# Altium integrated library TI_Logic_Specialty_Logic.IntLib: 2504 symbols (part 56 of 81)
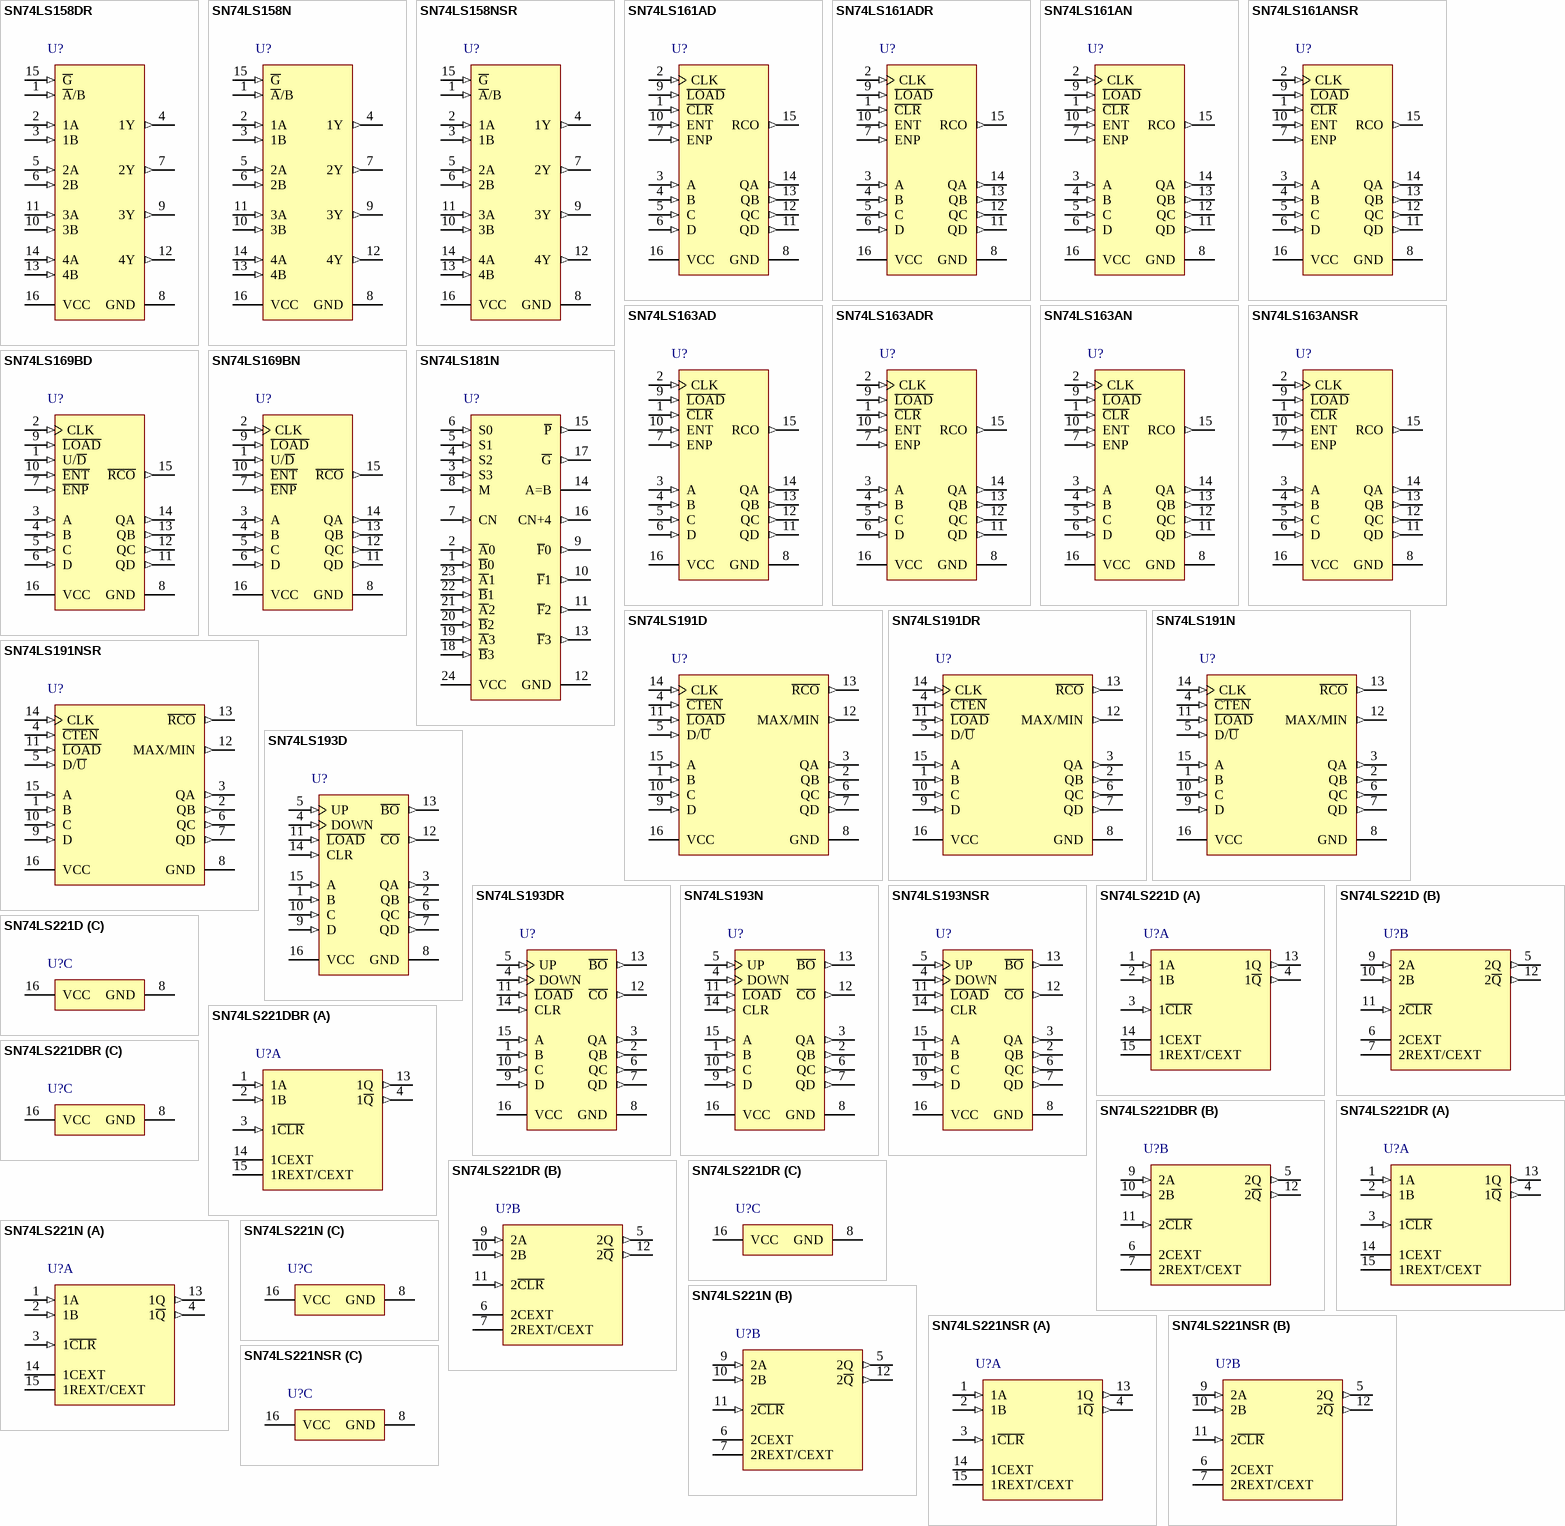
[diagram p159: symbols SN74LS158DR to SN74LS221NSR]

## SN74LS193N
designator U?
Synchronous 4-Bit Up/Down Binary Counters With Dual Clock and Clear, N0016A, TUBE; Generic Part Number: SN74LS193; Manufacturer: Texas Instruments; PartNumber: SN74LS193N; VCC(Min)(V): 4.75; VCC(Max)(V): 5.25; Output Type: CMOS; Inputs: 4; ICC @ Nom Voltage(Max)(mA): 34; Input Type: TTL; F @ Nom Voltage(Max)(Mhz): 35; Rating: Catalog; Technology Family: LS; Voltage(Nom)(V): 5; Schmitt Trigger: No; Output Drive (IOL/IOH)(Max)(mA): 8/-0.4; tpd @ Nom Voltage(Max)(ns): 47; DatasheetVersion: SDLS074; PackageReference: N0016A; Supplier 1: Mouser; Supplier Part Number 1: 595-SN74LS193N; Supplier 2: Digi-Key; Supplier Part Number 2: 296-1649-5-ND; Function: Counter; Bits(#): 4; Operating Temperature Range(C): 0 to 70; Type: Binary; Code_JEDEC: MS-001; ComponentLink1Description: Manufacturer URL; ComponentLink1URL: http://www.ti.com/; ComponentLink2Description: Datasheet; ComponentLink2URL: http://www.ti.com/lit/ds/symlink/sn74ls193.pdf; ComponentLink3Description: Package Specification; ComponentLink3URL: http://www.ti.com/lit/ml/mpdi002c/mpdi002c.pdf
footprint N0016A (DIP, 16-Leads, Body 19.7x6.6mm, Pitch 2.54mm)
pins: 1 B (in), 2 QB (out), 3 QA (out), 4 DOWN (in), 5 UP (in), 6 QC (out), 7 QD (out), 8 GND (power), 9 D (in), 10 C (in), 11 ~{LOAD} (in), 12 ~{CO} (out), 13 ~{BO} (out), 14 CLR (in), 15 A (in), 16 VCC (power)

## SN74LS193NSR
designator U?
Synchronous 4-Bit Up/Down Binary Counters With Dual Clock and Clear, NS0016A, LARGE T&R; Generic Part Number: SN74LS193; Manufacturer: Texas Instruments; PartNumber: SN74LS193NSR; VCC(Min)(V): 4.75; VCC(Max)(V): 5.25; Output Type: CMOS; Inputs: 4; ICC @ Nom Voltage(Max)(mA): 34; Input Type: TTL; F @ Nom Voltage(Max)(Mhz): 35; Rating: Catalog; Technology Family: LS; Voltage(Nom)(V): 5; Schmitt Trigger: No; Output Drive (IOL/IOH)(Max)(mA): 8/-0.4; tpd @ Nom Voltage(Max)(ns): 47; DatasheetVersion: SDLS074; PackageReference: NS0016A; Supplier 1: Mouser; Supplier Part Number 1: 595-SN74LS193NSR; Supplier 2: Digi-Key; Supplier Part Number 2: 296-30000-2-ND; Supplier 3: Digi-Key; Supplier Part Number 3: 296-30000-1-ND; Supplier 4: Digi-Key; Supplier Part Number 4: 296-30000-6-ND; Function: Counter; Bits(#): 4; Operating Temperature Range(C): 0 to 70; Type: Binary; ComponentLink1Description: Manufacturer URL; ComponentLink1URL: http://www.ti.com/; ComponentLink2Description: Datasheet; ComponentLink2URL: http://www.ti.com/lit/ds/symlink/sn74ls193.pdf; ComponentLink3Description: Package Specification; ComponentLink3URL: http://www.ti.com/lit/ml/msop002a/msop002a.pdf
footprint NS0016A_N (SOIC,16-Leads,Body 10.5x5.6mm,Pitch 1.27mm,IPC Medium Density)
footprint NS0016A_M (SOIC,16-Leads,Body 10.5x5.6mm,Pitch 1.27mm,IPC Low Density)
footprint NS0016A_L (SOIC,16-Leads,Body 10.5x5.6mm,Pitch 1.27mm,IPC High Density)
pins: 1 B (in), 2 QB (out), 3 QA (out), 4 DOWN (in), 5 UP (in), 6 QC (out), 7 QD (out), 8 GND (power), 9 D (in), 10 C (in), 11 ~{LOAD} (in), 12 ~{CO} (out), 13 ~{BO} (out), 14 CLR (in), 15 A (in), 16 VCC (power)

## SN74LS221D
designator U?
Dual monostable multivibrators with Schmitt-trigger inputs, D0016A, TUBE; Generic Part Number: SN74LS221; Manufacturer: Texas Instruments; PartNumber: SN74LS221D; VCC(Min)(V): 4.75; VCC(Max)(V): 5.25; Output Type: TTL; ICC @ Nom Voltage(Max)(mA): 27; Bits(#): 2; F @ Nom Voltage(Max)(Mhz): 35; Rating: Catalog; Technology Family: LS; Voltage(Nom)(V): 5; Schmitt Trigger: No; Output Drive (IOL/IOH)(Max)(mA): 8/-0.4; tpd @ Nom Voltage(Max)(ns): 80; DatasheetVersion: SDLS213B; PackageReference: D0016A; Supplier 1: Mouser; Supplier Part Number 1: 595-SN74LS221D; Supplier 2: Digi-Key; Supplier Part Number 2: 296-3673-5-ND; Input Type: TTL; Operating Temperature Range(C): 0 to 70; Code_JEDEC: MS-012 variation AC; ComponentLink1Description: Manufacturer URL; ComponentLink1URL: http://www.ti.com/; ComponentLink2Description: Datasheet; ComponentLink2URL: http://www.ti.com/lit/ds/symlink/sn74ls221.pdf; ComponentLink3Description: Package Specification; ComponentLink3URL: http://www.ti.com/lit/ml/mpds178g/mpds178g.pdf
footprint D0016A_N (SOIC, 16-Leads, Body 10x4mm, Pitch 1.27mm, IPC Medium Density)
footprint D0016A_M (SOIC, 16-Leads, Body 10x4mm, Pitch 1.27mm, IPC Low Density)
footprint D0016A_L (SOIC, 16-Leads, Body 10x4mm, Pitch 1.27mm, IPC High Density)
part A pins: 1 1A (in), 2 1B (in), 3 1~{CLR} (in), 4 1~{Q} (out), 13 1Q (out), 14 1CEXT, 15 1REXT/CEXT
part B pins: 5 2Q (out), 6 2CEXT, 7 2REXT/CEXT, 9 2A (in), 10 2B (in), 11 2~{CLR} (in), 12 2~{Q} (out)
part C pins: 8 GND (power), 16 VCC (power)

## SN74LS221DBR
designator U?
Dual monostable multivibrators with Schmitt-trigger inputs, DB0016A, LARGE T&R; Generic Part Number: SN74LS221; Manufacturer: Texas Instruments; PartNumber: SN74LS221DBR; VCC(Min)(V): 4.75; VCC(Max)(V): 5.25; Output Type: TTL; ICC @ Nom Voltage(Max)(mA): 27; Bits(#): 2; F @ Nom Voltage(Max)(Mhz): 35; Rating: Catalog; Technology Family: LS; Voltage(Nom)(V): 5; Schmitt Trigger: No; Output Drive (IOL/IOH)(Max)(mA): 8/-0.4; tpd @ Nom Voltage(Max)(ns): 80; DatasheetVersion: SDLS213B; PackageReference: DB0016A; Supplier 1: Mouser; Supplier Part Number 1: 595-SN74LS221DBR; Supplier 2: Digi-Key; Supplier Part Number 2: 296-29135-2-ND; Supplier 3: Digi-Key; Supplier Part Number 3: 296-29135-1-ND; Supplier 4: Digi-Key; Supplier Part Number 4: 296-29135-6-ND; Input Type: TTL; Operating Temperature Range(C): 0 to 70; Code_JEDEC: MO-150; ComponentLink1Description: Manufacturer URL; ComponentLink1URL: http://www.ti.com/; ComponentLink2Description: Datasheet; ComponentLink2URL: http://www.ti.com/lit/ds/symlink/sn74ls221.pdf; ComponentLink3Description: Package Specification; ComponentLink3URL: http://www.ti.com/lit/ml/mpds507/mpds507.pdf
footprint DB0016A_N (SOP, 16-Leads, Body 5.6x6.5mm, Pitch 0.65mm, IPC Medium Density)
footprint DB0016A_M (SOP, 16-Leads, Body 5.6x6.5mm, Pitch 0.65mm, IPC Low Density)
footprint DB0016A_L (SOP, 16-Leads, Body 5.6x6.5mm, Pitch 0.65mm, IPC High Density)
part A pins: 1 1A (in), 2 1B (in), 3 1~{CLR} (in), 4 1~{Q} (out), 13 1Q (out), 14 1CEXT, 15 1REXT/CEXT
part B pins: 5 2Q (out), 6 2CEXT, 7 2REXT/CEXT, 9 2A (in), 10 2B (in), 11 2~{CLR} (in), 12 2~{Q} (out)
part C pins: 8 GND (power), 16 VCC (power)

## SN74LS221DR
designator U?
Dual monostable multivibrators with Schmitt-trigger inputs, D0016A, LARGE T&R; Generic Part Number: SN74LS221; Manufacturer: Texas Instruments; PartNumber: SN74LS221DR; VCC(Min)(V): 4.75; VCC(Max)(V): 5.25; Output Type: TTL; ICC @ Nom Voltage(Max)(mA): 27; Bits(#): 2; F @ Nom Voltage(Max)(Mhz): 35; Rating: Catalog; Technology Family: LS; Voltage(Nom)(V): 5; Schmitt Trigger: No; Output Drive (IOL/IOH)(Max)(mA): 8/-0.4; tpd @ Nom Voltage(Max)(ns): 80; DatasheetVersion: SDLS213B; PackageReference: D0016A; Supplier 1: Mouser; Supplier Part Number 1: 595-SN74LS221DR; Supplier 2: Digi-Key; Supplier Part Number 2: 296-37421-2-ND; Supplier 3: Digi-Key; Supplier Part Number 3: 296-37421-1-ND; Supplier 4: Digi-Key; Supplier Part Number 4: 296-37421-6-ND; Input Type: TTL; Operating Temperature Range(C): 0 to 70; Code_JEDEC: MS-012 variation AC; ComponentLink1Description: Manufacturer URL; ComponentLink1URL: http://www.ti.com/; ComponentLink2Description: Datasheet; ComponentLink2URL: http://www.ti.com/lit/ds/symlink/sn74ls221.pdf; ComponentLink3Description: Package Specification; ComponentLink3URL: http://www.ti.com/lit/ml/mpds178g/mpds178g.pdf
footprint D0016A_N (SOIC, 16-Leads, Body 10x4mm, Pitch 1.27mm, IPC Medium Density)
footprint D0016A_M (SOIC, 16-Leads, Body 10x4mm, Pitch 1.27mm, IPC Low Density)
footprint D0016A_L (SOIC, 16-Leads, Body 10x4mm, Pitch 1.27mm, IPC High Density)
part A pins: 1 1A (in), 2 1B (in), 3 1~{CLR} (in), 4 1~{Q} (out), 13 1Q (out), 14 1CEXT, 15 1REXT/CEXT
part B pins: 5 2Q (out), 6 2CEXT, 7 2REXT/CEXT, 9 2A (in), 10 2B (in), 11 2~{CLR} (in), 12 2~{Q} (out)
part C pins: 8 GND (power), 16 VCC (power)

## SN74LS221N
designator U?
Dual monostable multivibrators with Schmitt-trigger inputs, N0016A, TUBE; Generic Part Number: SN74LS221; Manufacturer: Texas Instruments; PartNumber: SN74LS221N; VCC(Min)(V): 4.75; VCC(Max)(V): 5.25; Output Type: TTL; ICC @ Nom Voltage(Max)(mA): 27; Bits(#): 2; F @ Nom Voltage(Max)(Mhz): 35; Rating: Catalog; Technology Family: LS; Voltage(Nom)(V): 5; Schmitt Trigger: No; Output Drive (IOL/IOH)(Max)(mA): 8/-0.4; tpd @ Nom Voltage(Max)(ns): 80; DatasheetVersion: SDLS213B; PackageReference: N0016A; Supplier 1: Mouser; Supplier Part Number 1: 595-SN74LS221N; Supplier 2: Digi-Key; Supplier Part Number 2: 296-3674-5-ND; Input Type: TTL; Operating Temperature Range(C): 0 to 70; Code_JEDEC: MS-001; ComponentLink1Description: Manufacturer URL; ComponentLink1URL: http://www.ti.com/; ComponentLink2Description: Datasheet; ComponentLink2URL: http://www.ti.com/lit/ds/symlink/sn74ls221.pdf; ComponentLink3Description: Package Specification; ComponentLink3URL: http://www.ti.com/lit/ml/mpdi002c/mpdi002c.pdf
footprint N0016A (DIP, 16-Leads, Body 19.7x6.6mm, Pitch 2.54mm)
part A pins: 1 1A (in), 2 1B (in), 3 1~{CLR} (in), 4 1~{Q} (out), 13 1Q (out), 14 1CEXT, 15 1REXT/CEXT
part B pins: 5 2Q (out), 6 2CEXT, 7 2REXT/CEXT, 9 2A (in), 10 2B (in), 11 2~{CLR} (in), 12 2~{Q} (out)
part C pins: 8 GND (power), 16 VCC (power)

## SN74LS221NSR
designator U?
Dual monostable multivibrators with Schmitt-trigger inputs, NS0016A, LARGE T&R; Generic Part Number: SN74LS221; Manufacturer: Texas Instruments; PartNumber: SN74LS221NSR; VCC(Min)(V): 4.75; VCC(Max)(V): 5.25; Output Type: TTL; ICC @ Nom Voltage(Max)(mA): 27; Bits(#): 2; F @ Nom Voltage(Max)(Mhz): 35; Rating: Catalog; Technology Family: LS; Voltage(Nom)(V): 5; Schmitt Trigger: No; Output Drive (IOL/IOH)(Max)(mA): 8/-0.4; tpd @ Nom Voltage(Max)(ns): 80; DatasheetVersion: SDLS213B; PackageReference: NS0016A; Supplier 1: Mouser; Supplier Part Number 1: 595-SN74LS221NSR; Supplier 2: Digi-Key; Supplier Part Number 2: 296-38801-2-ND; Supplier 3: Digi-Key; Supplier Part Number 3: 296-38801-1-ND; Supplier 4: Digi-Key; Supplier Part Number 4: 296-38801-6-ND; Input Type: TTL; Operating Temperature Range(C): 0 to 70; ComponentLink1Description: Manufacturer URL; ComponentLink1URL: http://www.ti.com/; ComponentLink2Description: Datasheet; ComponentLink2URL: http://www.ti.com/lit/ds/symlink/sn74ls221.pdf; ComponentLink3Description: Package Specification; ComponentLink3URL: http://www.ti.com/lit/ml/msop002a/msop002a.pdf
footprint NS0016A_N (SOIC,16-Leads,Body 10.5x5.6mm,Pitch 1.27mm,IPC Medium Density)
footprint NS0016A_M (SOIC,16-Leads,Body 10.5x5.6mm,Pitch 1.27mm,IPC Low Density)
footprint NS0016A_L (SOIC,16-Leads,Body 10.5x5.6mm,Pitch 1.27mm,IPC High Density)
part A pins: 1 1A (in), 2 1B (in), 3 1~{CLR} (in), 4 1~{Q} (out), 13 1Q (out), 14 1CEXT, 15 1REXT/CEXT
part B pins: 5 2Q (out), 6 2CEXT, 7 2REXT/CEXT, 9 2A (in), 10 2B (in), 11 2~{CLR} (in), 12 2~{Q} (out)
part C pins: 8 GND (power), 16 VCC (power)

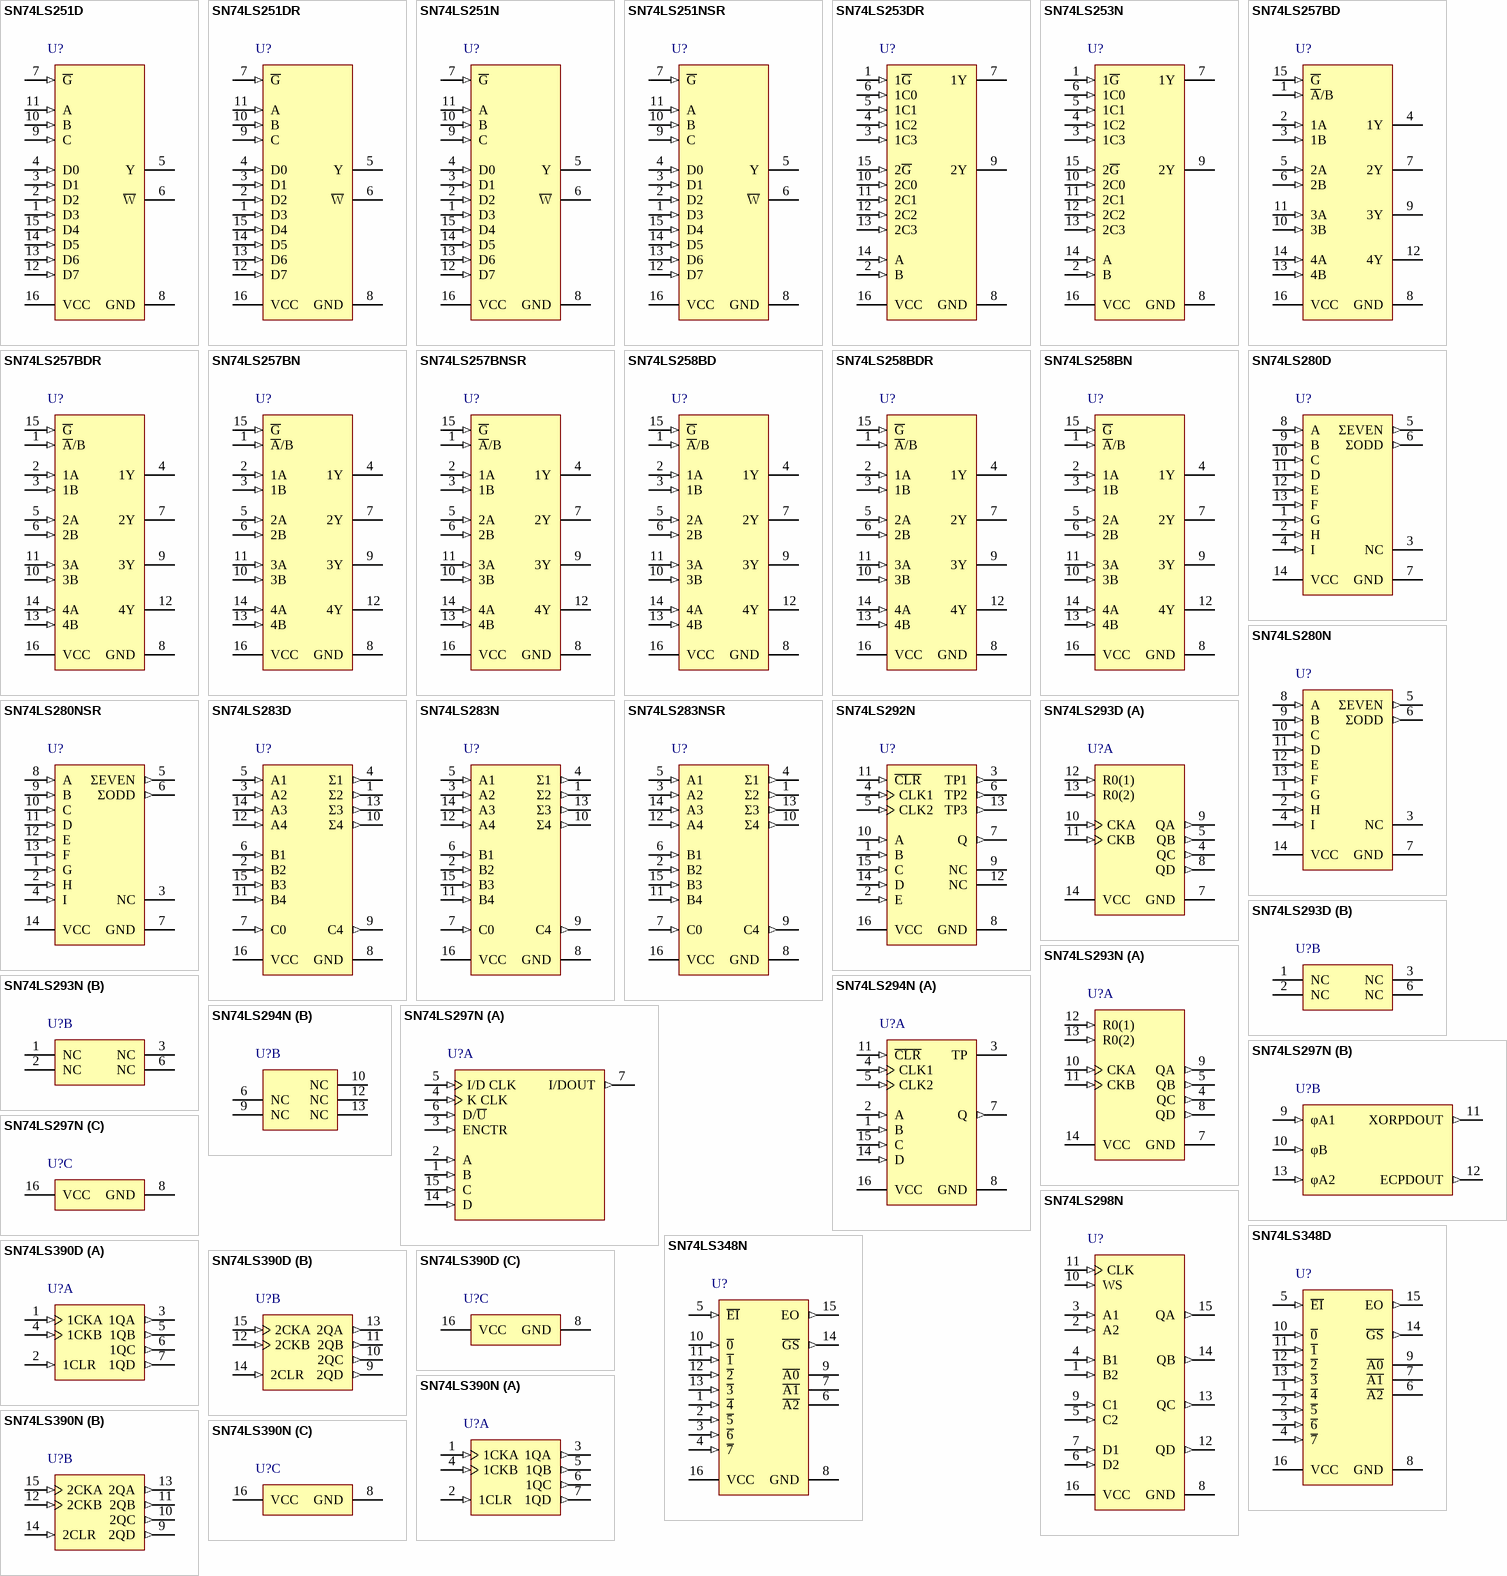
[diagram p70: symbols SN74LS251D to SN74LS390N]

## SN74LS251D
designator U?
8-Line To 1-Line Data Selectors/Multiplexers With 3-State Outputs, D0016A, TUBE; Generic Part Number: SN74LS251; Manufacturer: Texas Instruments; PartNumber: SN74LS251D; VCC(Min)(V): 4.75; VCC(Max)(V): 5.25; Output Type: TTL; Function: Encoder/Multiplexer; ICC @ Nom Voltage(Max)(mA): 12; Bits(#): 8; F @ Nom Voltage(Max)(Mhz): 35; Configuration: 8：1; Channels(#): 1; Rating: Catalog; Technology Family: LS; Voltage(Nom)(V): 5; Schmitt Trigger: No; Output Drive (IOL/IOH)(Max)(mA): 8/-2.6; tpd @ Nom Voltage(Max)(ns): 45; DatasheetVersion: SDLS085; PackageReference: D0016A; Supplier 1: Mouser; Supplier Part Number 1: 595-SN74LS251D; Supplier 2: Digi-Key; Supplier Part Number 2: 296-33980-5-ND; Input Type: TTL; Operating Temperature Range(C): 0 to 70; Type: 3-State Output; Code_JEDEC: MS-012 variation AC; ComponentLink1Description: Manufacturer URL; ComponentLink1URL: http://www.ti.com/; ComponentLink2Description: Datasheet; ComponentLink2URL: http://www.ti.com/lit/ds/symlink/sn74ls251.pdf; ComponentLink3Description: Package Specification; ComponentLink3URL: http://www.ti.com/lit/ml/mpds178g/mpds178g.pdf
footprint D0016A_N (SOIC, 16-Leads, Body 10x4mm, Pitch 1.27mm, IPC Medium Density)
footprint D0016A_M (SOIC, 16-Leads, Body 10x4mm, Pitch 1.27mm, IPC Low Density)
footprint D0016A_L (SOIC, 16-Leads, Body 10x4mm, Pitch 1.27mm, IPC High Density)
pins: 1 D3 (in), 2 D2 (in), 3 D1 (in), 4 D0 (in), 5 Y (hiz), 6 ~{W} (hiz), 7 ~{G} (in), 8 GND (power), 9 C (in), 10 B (in), 11 A (in), 12 D7 (in), 13 D6 (in), 14 D5 (in), 15 D4 (in), 16 VCC (power)

## SN74LS251DR
designator U?
8-Line To 1-Line Data Selectors/Multiplexers With 3-State Outputs, D0016A, LARGE T&R; Generic Part Number: SN74LS251; Manufacturer: Texas Instruments; PartNumber: SN74LS251DR; VCC(Min)(V): 4.75; VCC(Max)(V): 5.25; Output Type: TTL; Function: Encoder/Multiplexer; ICC @ Nom Voltage(Max)(mA): 12; Bits(#): 8; F @ Nom Voltage(Max)(Mhz): 35; Configuration: 8：1; Channels(#): 1; Rating: Catalog; Technology Family: LS; Voltage(Nom)(V): 5; Schmitt Trigger: No; Output Drive (IOL/IOH)(Max)(mA): 8/-2.6; tpd @ Nom Voltage(Max)(ns): 45; DatasheetVersion: SDLS085; PackageReference: D0016A; Supplier 1: Mouser; Supplier Part Number 1: 595-SN74LS251DR; Supplier 2: Digi-Key; Supplier Part Number 2: 296-3680-2-ND; Supplier 3: Digi-Key; Supplier Part Number 3: 296-3680-1-ND; Supplier 4: Digi-Key; Supplier Part Number 4: 296-3680-6-ND; Input Type: TTL; Operating Temperature Range(C): 0 to 70; Type: 3-State Output; Code_JEDEC: MS-012 variation AC; ComponentLink1Description: Manufacturer URL; ComponentLink1URL: http://www.ti.com/; ComponentLink2Description: Datasheet; ComponentLink2URL: http://www.ti.com/lit/ds/symlink/sn74ls251.pdf; ComponentLink3Description: Package Specification; ComponentLink3URL: http://www.ti.com/lit/ml/mpds178g/mpds178g.pdf
footprint D0016A_N (SOIC, 16-Leads, Body 10x4mm, Pitch 1.27mm, IPC Medium Density)
footprint D0016A_M (SOIC, 16-Leads, Body 10x4mm, Pitch 1.27mm, IPC Low Density)
footprint D0016A_L (SOIC, 16-Leads, Body 10x4mm, Pitch 1.27mm, IPC High Density)
pins: 1 D3 (in), 2 D2 (in), 3 D1 (in), 4 D0 (in), 5 Y (hiz), 6 ~{W} (hiz), 7 ~{G} (in), 8 GND (power), 9 C (in), 10 B (in), 11 A (in), 12 D7 (in), 13 D6 (in), 14 D5 (in), 15 D4 (in), 16 VCC (power)

## SN74LS251N
designator U?
8-Line To 1-Line Data Selectors/Multiplexers With 3-State Outputs, N0016A, TUBE; Generic Part Number: SN74LS251; Manufacturer: Texas Instruments; PartNumber: SN74LS251N; VCC(Min)(V): 4.75; VCC(Max)(V): 5.25; Output Type: TTL; Function: Encoder/Multiplexer; ICC @ Nom Voltage(Max)(mA): 12; Bits(#): 8; F @ Nom Voltage(Max)(Mhz): 35; Configuration: 8：1; Channels(#): 1; Rating: Catalog; Technology Family: LS; Voltage(Nom)(V): 5; Schmitt Trigger: No; Output Drive (IOL/IOH)(Max)(mA): 8/-2.6; tpd @ Nom Voltage(Max)(ns): 45; DatasheetVersion: SDLS085; PackageReference: N0016A; Supplier 1: Mouser; Supplier Part Number 1: 595-SN74LS251N; Supplier 2: Digi-Key; Supplier Part Number 2: 296-14888-5-ND; Input Type: TTL; Operating Temperature Range(C): 0 to 70; Type: 3-State Output; Code_JEDEC: MS-001; ComponentLink1Description: Manufacturer URL; ComponentLink1URL: http://www.ti.com/; ComponentLink2Description: Datasheet; ComponentLink2URL: http://www.ti.com/lit/ds/symlink/sn74ls251.pdf; ComponentLink3Description: Package Specification; ComponentLink3URL: http://www.ti.com/lit/ml/mpdi002c/mpdi002c.pdf
footprint N0016A (DIP, 16-Leads, Body 19.7x6.6mm, Pitch 2.54mm)
pins: 1 D3 (in), 2 D2 (in), 3 D1 (in), 4 D0 (in), 5 Y (hiz), 6 ~{W} (hiz), 7 ~{G} (in), 8 GND (power), 9 C (in), 10 B (in), 11 A (in), 12 D7 (in), 13 D6 (in), 14 D5 (in), 15 D4 (in), 16 VCC (power)

## SN74LS251NSR
designator U?
8-Line To 1-Line Data Selectors/Multiplexers With 3-State Outputs, NS0016A, LARGE T&R; Generic Part Number: SN74LS251; Manufacturer: Texas Instruments; PartNumber: SN74LS251NSR; VCC(Min)(V): 4.75; VCC(Max)(V): 5.25; Output Type: TTL; Function: Encoder/Multiplexer; ICC @ Nom Voltage(Max)(mA): 12; Bits(#): 8; F @ Nom Voltage(Max)(Mhz): 35; Configuration: 8：1; Channels(#): 1; Rating: Catalog; Technology Family: LS; Voltage(Nom)(V): 5; Schmitt Trigger: No; Output Drive (IOL/IOH)(Max)(mA): 8/-2.6; tpd @ Nom Voltage(Max)(ns): 45; DatasheetVersion: SDLS085; PackageReference: NS0016A; Supplier 1: Mouser; Supplier Part Number 1: 595-SN74LS251NSR; Supplier 2: Digi-Key; Supplier Part Number 2: 296-28720-2-ND; Supplier 3: Digi-Key; Supplier Part Number 3: 296-28720-1-ND; Supplier 4: Digi-Key; Supplier Part Number 4: 296-28720-6-ND; Input Type: TTL; Operating Temperature Range(C): 0 to 70; Type: 3-State Output; ComponentLink1Description: Manufacturer URL; ComponentLink1URL: http://www.ti.com/; ComponentLink2Description: Datasheet; ComponentLink2URL: http://www.ti.com/lit/ds/symlink/sn74ls251.pdf; ComponentLink3Description: Package Specification; ComponentLink3URL: http://www.ti.com/lit/ml/msop002a/msop002a.pdf
footprint NS0016A_N (SOIC,16-Leads,Body 10.5x5.6mm,Pitch 1.27mm,IPC Medium Density)
footprint NS0016A_M (SOIC,16-Leads,Body 10.5x5.6mm,Pitch 1.27mm,IPC Low Density)
footprint NS0016A_L (SOIC,16-Leads,Body 10.5x5.6mm,Pitch 1.27mm,IPC High Density)
pins: 1 D3 (in), 2 D2 (in), 3 D1 (in), 4 D0 (in), 5 Y (hiz), 6 ~{W} (hiz), 7 ~{G} (in), 8 GND (power), 9 C (in), 10 B (in), 11 A (in), 12 D7 (in), 13 D6 (in), 14 D5 (in), 15 D4 (in), 16 VCC (power)

## SN74LS253DR
designator U?
Dual 4-Line To 1-Line Data Selectors/Multiplexers With 3-State Outputs, D0016A, LARGE T&R; Generic Part Number: SN74LS253; Manufacturer: Texas Instruments; PartNumber: SN74LS253DR; VCC(Min)(V): 4.75; VCC(Max)(V): 5.25; Output Type: TTL; Function: Encoder/Multiplexer; ICC @ Nom Voltage(Max)(mA): 14; Bits(#): 4; F @ Nom Voltage(Max)(Mhz): 35; Configuration: 4：1; Channels(#): 2; Rating: Catalog; Technology Family: LS; Voltage(Nom)(V): 5; Schmitt Trigger: No; Output Drive (IOL/IOH)(Max)(mA): 8/-2.6; tpd @ Nom Voltage(Max)(ns): 25; DatasheetVersion: SDLS147; PackageReference: D0016A; Supplier 1: Mouser; Supplier Part Number 1: 595-SN74LS253DR; Supplier 2: Digi-Key; Supplier Part Number 2: 296-37423-2-ND; Supplier 3: Digi-Key; Supplier Part Number 3: 296-37423-1-ND; Supplier 4: Digi-Key; Supplier Part Number 4: 296-37423-6-ND; Input Type: TTL; Operating Temperature Range(C): 0 to 70; Type: 3-State Output; Code_JEDEC: MS-012 variation AC; ComponentLink1Description: Manufacturer URL; ComponentLink1URL: http://www.ti.com/; ComponentLink2Description: Datasheet; ComponentLink2URL: http://www.ti.com/lit/ds/symlink/sn74ls253.pdf; ComponentLink3Description: Package Specification; ComponentLink3URL: http://www.ti.com/lit/ml/mpds178g/mpds178g.pdf
footprint D0016A_N (SOIC, 16-Leads, Body 10x4mm, Pitch 1.27mm, IPC Medium Density)
footprint D0016A_M (SOIC, 16-Leads, Body 10x4mm, Pitch 1.27mm, IPC Low Density)
footprint D0016A_L (SOIC, 16-Leads, Body 10x4mm, Pitch 1.27mm, IPC High Density)
pins: 1 1~{G} (in), 2 B (in), 3 1C3 (in), 4 1C2 (in), 5 1C1 (in), 6 1C0 (in), 7 1Y (hiz), 8 GND (power), 9 2Y (hiz), 10 2C0 (in), 11 2C1 (in), 12 2C2 (in), 13 2C3 (in), 14 A (in), 15 2~{G} (in), 16 VCC (power)

## SN74LS253N
designator U?
Dual 4-Line To 1-Line Data Selectors/Multiplexers With 3-State Outputs, N0016A, TUBE; Generic Part Number: SN74LS253; Manufacturer: Texas Instruments; PartNumber: SN74LS253N; VCC(Min)(V): 4.75; VCC(Max)(V): 5.25; Output Type: TTL; Function: Encoder/Multiplexer; ICC @ Nom Voltage(Max)(mA): 14; Bits(#): 4; F @ Nom Voltage(Max)(Mhz): 35; Configuration: 4：1; Channels(#): 2; Rating: Catalog; Technology Family: LS; Voltage(Nom)(V): 5; Schmitt Trigger: No; Output Drive (IOL/IOH)(Max)(mA): 8/-2.6; tpd @ Nom Voltage(Max)(ns): 25; DatasheetVersion: SDLS147; PackageReference: N0016A; Supplier 1: Mouser; Supplier Part Number 1: 595-SN74LS253N; Supplier 2: Digi-Key; Supplier Part Number 2: 296-33981-5-ND; Input Type: TTL; Operating Temperature Range(C): 0 to 70; Type: 3-State Output; Code_JEDEC: MS-001; ComponentLink1Description: Manufacturer URL; ComponentLink1URL: http://www.ti.com/; ComponentLink2Description: Datasheet; ComponentLink2URL: http://www.ti.com/lit/ds/symlink/sn74ls253.pdf; ComponentLink3Description: Package Specification; ComponentLink3URL: http://www.ti.com/lit/ml/mpdi002c/mpdi002c.pdf
footprint N0016A (DIP, 16-Leads, Body 19.7x6.6mm, Pitch 2.54mm)
pins: 1 1~{G} (in), 2 B (in), 3 1C3 (in), 4 1C2 (in), 5 1C1 (in), 6 1C0 (in), 7 1Y (hiz), 8 GND (power), 9 2Y (hiz), 10 2C0 (in), 11 2C1 (in), 12 2C2 (in), 13 2C3 (in), 14 A (in), 15 2~{G} (in), 16 VCC (power)

## SN74LS257BD
designator U?
Quadruple 2-Line To 1-Line Data Selectors/Multiplexers With 3-State Outputs, D0016A, TUBE; Generic Part Number: SN74LS257B; Manufacturer: Texas Instruments; PartNumber: SN74LS257BD; VCC(Min)(V): 4.75; VCC(Max)(V): 5.25; Output Type: TTL; Function: Encoder/Multiplexer; ICC @ Nom Voltage(Max)(mA): 19; Bits(#): 2; F @ Nom Voltage(Max)(Mhz): 35; Configuration: 2：1; Channels(#): 4; Rating: Catalog; Technology Family: LS; Voltage(Nom)(V): 5; Schmitt Trigger: No; Output Drive (IOL/IOH)(Max)(mA): 24/-2.6; tpd @ Nom Voltage(Max)(ns): 21; DatasheetVersion: SDLS148; PackageReference: D0016A; Supplier 1: Mouser; Supplier Part Number 1: 595-SN74LS257BD; Supplier 2: Digi-Key; Supplier Part Number 2: 296-33982-5-ND; Input Type: TTL; Operating Temperature Range(C): 0 to 70; Type: 3-State Output; Code_JEDEC: MS-012 variation AC; ComponentLink1Description: Manufacturer URL; ComponentLink1URL: http://www.ti.com/; ComponentLink2Description: Datasheet; ComponentLink2URL: http://www.ti.com/lit/ds/symlink/sn74ls257b.pdf; ComponentLink3Description: Package Specification; ComponentLink3URL: http://www.ti.com/lit/ml/mpds178g/mpds178g.pdf
footprint D0016A_N (SOIC, 16-Leads, Body 10x4mm, Pitch 1.27mm, IPC Medium Density)
footprint D0016A_M (SOIC, 16-Leads, Body 10x4mm, Pitch 1.27mm, IPC Low Density)
footprint D0016A_L (SOIC, 16-Leads, Body 10x4mm, Pitch 1.27mm, IPC High Density)
pins: 1 ~{A}/B (in), 2 1A (in), 3 1B (in), 4 1Y (hiz), 5 2A (in), 6 2B (in), 7 2Y (hiz), 8 GND (power), 9 3Y (hiz), 10 3B (in), 11 3A (in), 12 4Y (hiz), 13 4B (in), 14 4A (in), 15 ~{G} (in), 16 VCC (power)

## SN74LS257BDR
designator U?
Quadruple 2-Line To 1-Line Data Selectors/Multiplexers With 3-State Outputs, D0016A, LARGE T&R; Generic Part Number: SN74LS257B; Manufacturer: Texas Instruments; PartNumber: SN74LS257BDR; VCC(Min)(V): 4.75; VCC(Max)(V): 5.25; Output Type: TTL; Function: Encoder/Multiplexer; ICC @ Nom Voltage(Max)(mA): 19; Bits(#): 2; F @ Nom Voltage(Max)(Mhz): 35; Configuration: 2：1; Channels(#): 4; Rating: Catalog; Technology Family: LS; Voltage(Nom)(V): 5; Schmitt Trigger: No; Output Drive (IOL/IOH)(Max)(mA): 24/-2.6; tpd @ Nom Voltage(Max)(ns): 21; DatasheetVersion: SDLS148; PackageReference: D0016A; Supplier 1: Mouser; Supplier Part Number 1: 595-SN74LS257BDR; Supplier 2: Digi-Key; Supplier Part Number 2: SN74LS257BDR-ND; Input Type: TTL; Operating Temperature Range(C): 0 to 70; Type: 3-State Output; Code_JEDEC: MS-012 variation AC; ComponentLink1Description: Manufacturer URL; ComponentLink1URL: http://www.ti.com/; ComponentLink2Description: Datasheet; ComponentLink2URL: http://www.ti.com/lit/ds/symlink/sn74ls257b.pdf; ComponentLink3Description: Package Specification; ComponentLink3URL: http://www.ti.com/lit/ml/mpds178g/mpds178g.pdf
footprint D0016A_N (SOIC, 16-Leads, Body 10x4mm, Pitch 1.27mm, IPC Medium Density)
footprint D0016A_M (SOIC, 16-Leads, Body 10x4mm, Pitch 1.27mm, IPC Low Density)
footprint D0016A_L (SOIC, 16-Leads, Body 10x4mm, Pitch 1.27mm, IPC High Density)
pins: 1 ~{A}/B (in), 2 1A (in), 3 1B (in), 4 1Y (hiz), 5 2A (in), 6 2B (in), 7 2Y (hiz), 8 GND (power), 9 3Y (hiz), 10 3B (in), 11 3A (in), 12 4Y (hiz), 13 4B (in), 14 4A (in), 15 ~{G} (in), 16 VCC (power)

## SN74LS257BN
designator U?
Quadruple 2-Line To 1-Line Data Selectors/Multiplexers With 3-State Outputs, N0016A, TUBE; Generic Part Number: SN74LS257B; Manufacturer: Texas Instruments; PartNumber: SN74LS257BN; VCC(Min)(V): 4.75; VCC(Max)(V): 5.25; Output Type: TTL; Function: Encoder/Multiplexer; ICC @ Nom Voltage(Max)(mA): 19; Bits(#): 2; F @ Nom Voltage(Max)(Mhz): 35; Configuration: 2：1; Channels(#): 4; Rating: Catalog; Technology Family: LS; Voltage(Nom)(V): 5; Schmitt Trigger: No; Output Drive (IOL/IOH)(Max)(mA): 24/-2.6; tpd @ Nom Voltage(Max)(ns): 21; DatasheetVersion: SDLS148; PackageReference: N0016A; Supplier 1: Mouser; Supplier Part Number 1: 595-SN74LS257BN; Supplier 2: Digi-Key; Supplier Part Number 2: 296-1656-5-ND; Input Type: TTL; Operating Temperature Range(C): 0 to 70; Type: 3-State Output; Code_JEDEC: MS-001; ComponentLink1Description: Manufacturer URL; ComponentLink1URL: http://www.ti.com/; ComponentLink2Description: Datasheet; ComponentLink2URL: http://www.ti.com/lit/ds/symlink/sn74ls257b.pdf; ComponentLink3Description: Package Specification; ComponentLink3URL: http://www.ti.com/lit/ml/mpdi002c/mpdi002c.pdf
footprint N0016A (DIP, 16-Leads, Body 19.7x6.6mm, Pitch 2.54mm)
pins: 1 ~{A}/B (in), 2 1A (in), 3 1B (in), 4 1Y (hiz), 5 2A (in), 6 2B (in), 7 2Y (hiz), 8 GND (power), 9 3Y (hiz), 10 3B (in), 11 3A (in), 12 4Y (hiz), 13 4B (in), 14 4A (in), 15 ~{G} (in), 16 VCC (power)

## SN74LS257BNSR
designator U?
Quadruple 2-Line To 1-Line Data Selectors/Multiplexers With 3-State Outputs, NS0016A, LARGE T&R; Generic Part Number: SN74LS257B; Manufacturer: Texas Instruments; PartNumber: SN74LS257BNSR; VCC(Min)(V): 4.75; VCC(Max)(V): 5.25; Output Type: TTL; Function: Encoder/Multiplexer; ICC @ Nom Voltage(Max)(mA): 19; Bits(#): 2; F @ Nom Voltage(Max)(Mhz): 35; Configuration: 2：1; Channels(#): 4; Rating: Catalog; Technology Family: LS; Voltage(Nom)(V): 5; Schmitt Trigger: No; Output Drive (IOL/IOH)(Max)(mA): 24/-2.6; tpd @ Nom Voltage(Max)(ns): 21; DatasheetVersion: SDLS148; PackageReference: NS0016A; Supplier 1: Mouser; Supplier Part Number 1: 595-SN74LS257BNSR; Supplier 2: Digi-Key; Supplier Part Number 2: 296-29136-2-ND; Supplier 3: Digi-Key; Supplier Part Number 3: 296-29136-1-ND; Supplier 4: Digi-Key; Supplier Part Number 4: 296-29136-6-ND; Input Type: TTL; Operating Temperature Range(C): 0 to 70; Type: 3-State Output; ComponentLink1Description: Manufacturer URL; ComponentLink1URL: http://www.ti.com/; ComponentLink2Description: Datasheet; ComponentLink2URL: http://www.ti.com/lit/ds/symlink/sn74ls257b.pdf; ComponentLink3Description: Package Specification; ComponentLink3URL: http://www.ti.com/lit/ml/msop002a/msop002a.pdf
footprint NS0016A_N (SOIC,16-Leads,Body 10.5x5.6mm,Pitch 1.27mm,IPC Medium Density)
footprint NS0016A_M (SOIC,16-Leads,Body 10.5x5.6mm,Pitch 1.27mm,IPC Low Density)
footprint NS0016A_L (SOIC,16-Leads,Body 10.5x5.6mm,Pitch 1.27mm,IPC High Density)
pins: 1 ~{A}/B (in), 2 1A (in), 3 1B (in), 4 1Y (hiz), 5 2A (in), 6 2B (in), 7 2Y (hiz), 8 GND (power), 9 3Y (hiz), 10 3B (in), 11 3A (in), 12 4Y (hiz), 13 4B (in), 14 4A (in), 15 ~{G} (in), 16 VCC (power)

## SN74LS258BD
designator U?
Quadruple 2-Line To 1-Line Data Selectors/Multiplexers With 3-State Outputs, D0016A, TUBE; Generic Part Number: SN74LS258B; Manufacturer: Texas Instruments; PartNumber: SN74LS258BD; VCC(Min)(V): 4.75; VCC(Max)(V): 5.25; Output Type: TTL; Function: Encoder/Multiplexer; ICC @ Nom Voltage(Max)(mA): 16; Bits(#): 2; F @ Nom Voltage(Max)(Mhz): 35; Configuration: 2：1; Channels(#): 4; Rating: Catalog; Technology Family: LS; Voltage(Nom)(V): 5; Schmitt Trigger: No; Output Drive (IOL/IOH)(Max)(mA): 24/-2.6; tpd @ Nom Voltage(Max)(ns): 21; DatasheetVersion: SDLS148; PackageReference: D0016A; Supplier 1: Mouser; Supplier Part Number 1: 595-SN74LS258BD; Supplier 2: Digi-Key; Supplier Part Number 2: SN74LS258BD-ND; Input Type: TTL; Operating Temperature Range(C): 0 to 70; Type: 3-State Output; Code_JEDEC: MS-012 variation AC; ComponentLink1Description: Manufacturer URL; ComponentLink1URL: http://www.ti.com/; ComponentLink2Description: Datasheet; ComponentLink2URL: http://www.ti.com/lit/ds/symlink/sn74ls258b.pdf; ComponentLink3Description: Package Specification; ComponentLink3URL: http://www.ti.com/lit/ml/mpds178g/mpds178g.pdf
footprint D0016A_N (SOIC, 16-Leads, Body 10x4mm, Pitch 1.27mm, IPC Medium Density)
footprint D0016A_M (SOIC, 16-Leads, Body 10x4mm, Pitch 1.27mm, IPC Low Density)
footprint D0016A_L (SOIC, 16-Leads, Body 10x4mm, Pitch 1.27mm, IPC High Density)
pins: 1 ~{A}/B (in), 2 1A (in), 3 1B (in), 4 1Y (hiz), 5 2A (in), 6 2B (in), 7 2Y (hiz), 8 GND (power), 9 3Y (hiz), 10 3B (in), 11 3A (in), 12 4Y (hiz), 13 4B (in), 14 4A (in), 15 ~{G} (in), 16 VCC (power)

## SN74LS258BDR
designator U?
Quadruple 2-Line To 1-Line Data Selectors/Multiplexers With 3-State Outputs, D0016A, LARGE T&R; Generic Part Number: SN74LS258B; Manufacturer: Texas Instruments; PartNumber: SN74LS258BDR; VCC(Min)(V): 4.75; VCC(Max)(V): 5.25; Output Type: TTL; Function: Encoder/Multiplexer; ICC @ Nom Voltage(Max)(mA): 16; Bits(#): 2; F @ Nom Voltage(Max)(Mhz): 35; Configuration: 2：1; Channels(#): 4; Rating: Catalog; Technology Family: LS; Voltage(Nom)(V): 5; Schmitt Trigger: No; Output Drive (IOL/IOH)(Max)(mA): 24/-2.6; tpd @ Nom Voltage(Max)(ns): 21; DatasheetVersion: SDLS148; PackageReference: D0016A; Supplier 1: Mouser; Supplier Part Number 1: 595-SN74LS258BDR; Supplier 2: Digi-Key; Supplier Part Number 2: 296-29448-2-ND; Supplier 3: Digi-Key; Supplier Part Number 3: 296-29448-1-ND; Supplier 4: Digi-Key; Supplier Part Number 4: 296-29448-6-ND; Input Type: TTL; Operating Temperature Range(C): 0 to 70; Type: 3-State Output; Code_JEDEC: MS-012 variation AC; ComponentLink1Description: Manufacturer URL; ComponentLink1URL: http://www.ti.com/; ComponentLink2Description: Datasheet; ComponentLink2URL: http://www.ti.com/lit/ds/symlink/sn74ls258b.pdf; ComponentLink3Description: Package Specification; ComponentLink3URL: http://www.ti.com/lit/ml/mpds178g/mpds178g.pdf
footprint D0016A_N (SOIC, 16-Leads, Body 10x4mm, Pitch 1.27mm, IPC Medium Density)
footprint D0016A_M (SOIC, 16-Leads, Body 10x4mm, Pitch 1.27mm, IPC Low Density)
footprint D0016A_L (SOIC, 16-Leads, Body 10x4mm, Pitch 1.27mm, IPC High Density)
pins: 1 ~{A}/B (in), 2 1A (in), 3 1B (in), 4 1Y (hiz), 5 2A (in), 6 2B (in), 7 2Y (hiz), 8 GND (power), 9 3Y (hiz), 10 3B (in), 11 3A (in), 12 4Y (hiz), 13 4B (in), 14 4A (in), 15 ~{G} (in), 16 VCC (power)

## SN74LS258BN
designator U?
Quadruple 2-Line To 1-Line Data Selectors/Multiplexers With 3-State Outputs, N0016A, TUBE; Generic Part Number: SN74LS258B; Manufacturer: Texas Instruments; PartNumber: SN74LS258BN; VCC(Min)(V): 4.75; VCC(Max)(V): 5.25; Output Type: TTL; Function: Encoder/Multiplexer; ICC @ Nom Voltage(Max)(mA): 16; Bits(#): 2; F @ Nom Voltage(Max)(Mhz): 35; Configuration: 2：1; Channels(#): 4; Rating: Catalog; Technology Family: LS; Voltage(Nom)(V): 5; Schmitt Trigger: No; Output Drive (IOL/IOH)(Max)(mA): 24/-2.6; tpd @ Nom Voltage(Max)(ns): 21; DatasheetVersion: SDLS148; PackageReference: N0016A; Supplier 1: Mouser; Supplier Part Number 1: 595-SN74LS258BN; Supplier 2: Digi-Key; Supplier Part Number 2: 296-33983-5-ND; Input Type: TTL; Operating Temperature Range(C): 0 to 70; Type: 3-State Output; Code_JEDEC: MS-001; ComponentLink1Description: Manufacturer URL; ComponentLink1URL: http://www.ti.com/; ComponentLink2Description: Datasheet; ComponentLink2URL: http://www.ti.com/lit/ds/symlink/sn74ls258b.pdf; ComponentLink3Description: Package Specification; ComponentLink3URL: http://www.ti.com/lit/ml/mpdi002c/mpdi002c.pdf
footprint N0016A (DIP, 16-Leads, Body 19.7x6.6mm, Pitch 2.54mm)
pins: 1 ~{A}/B (in), 2 1A (in), 3 1B (in), 4 1Y (hiz), 5 2A (in), 6 2B (in), 7 2Y (hiz), 8 GND (power), 9 3Y (hiz), 10 3B (in), 11 3A (in), 12 4Y (hiz), 13 4B (in), 14 4A (in), 15 ~{G} (in), 16 VCC (power)

## SN74LS280D
designator U?
9-bit odd/even parity generators / checkers, D0014A, TUBE; Generic Part Number: SN74LS280; Manufacturer: Texas Instruments; PartNumber: SN74LS280D; VCC(Min)(V): 4.75; VCC(Max)(V): 5.25; Output Type: CMOS; Inputs: 9; ICC @ Nom Voltage(Max)(mA): 27; Input Type: TTL; Bits(#): 2; F @ Nom Voltage(Max)(Mhz): 35; Rating: Catalog; Technology Family: LS; Voltage(Nom)(V): 5; Schmitt Trigger: No; Output Drive (IOL/IOH)(Max)(mA): 8/-0.4; tpd @ Nom Voltage(Max)(ns): 50; DatasheetVersion: SDLS152; PackageReference: D0014A; Supplier 1: Mouser; Supplier Part Number 1: 595-SN74LS280D; Supplier 2: Digi-Key; Supplier Part Number 2: SN74LS280D-ND; Function: Parity; Operating Temperature Range(C): 0 to 70; Type: Other; Code_JEDEC: MS-012; ComponentLink1Description: Manufacturer URL; ComponentLink1URL: http://www.ti.com/; ComponentLink2Description: Datasheet; ComponentLink2URL: http://www.ti.com/lit/ds/symlink/sn74ls280.pdf; ComponentLink3Description: Package Specification; ComponentLink3URL: http://www.ti.com/lit/ml/mpds177g/mpds177g.pdf
footprint D0014A_N (SOIC, 14-Leads, Body 8.75x4mm, Pitch 1.27mm, IPC Medium Density)
footprint D0014A_M (SOIC, 14-Leads, Body 8.75x4mm, Pitch 1.27mm, IPC Low Density)
footprint D0014A_L (SOIC, 14-Leads, Body 8.75x4mm, Pitch 1.27mm, IPC High Density)
pins: 1 G (in), 2 H (in), 3 NC, 4 I (in), 5 ΣEVEN (out), 6 ΣODD (out), 7 GND (power), 8 A (in), 9 B (in), 10 C (in), 11 D (in), 12 E (in), 13 F (in), 14 VCC (power)

## SN74LS280N
designator U?
9-bit odd/even parity generators / checkers, N0014A, TUBE; Generic Part Number: SN74LS280; Manufacturer: Texas Instruments; PartNumber: SN74LS280N; VCC(Min)(V): 4.75; VCC(Max)(V): 5.25; Output Type: CMOS; Inputs: 9; ICC @ Nom Voltage(Max)(mA): 27; Input Type: TTL; Bits(#): 2; F @ Nom Voltage(Max)(Mhz): 35; Rating: Catalog; Technology Family: LS; Voltage(Nom)(V): 5; Schmitt Trigger: No; Output Drive (IOL/IOH)(Max)(mA): 8/-0.4; tpd @ Nom Voltage(Max)(ns): 50; DatasheetVersion: SDLS152; PackageReference: N0014A; Supplier 1: Mouser; Supplier Part Number 1: 595-SN74LS280N; Supplier 2: Digi-Key; Supplier Part Number 2: 296-3687-5-ND; Function: Parity; Operating Temperature Range(C): 0 to 70; Type: Other; Code_JEDEC: MS-001; ComponentLink1Description: Manufacturer URL; ComponentLink1URL: http://www.ti.com/; ComponentLink2Description: Datasheet; ComponentLink2URL: http://www.ti.com/lit/ds/symlink/sn74ls280.pdf; ComponentLink3Description: Package Specification; ComponentLink3URL: http://www.ti.com/lit/ml/mpdi002c/mpdi002c.pdf
footprint N0014A (DIP, 14-Leads, Body 19.7x6.6mm, Pitch 2.54mm)
pins: 1 G (in), 2 H (in), 3 NC, 4 I (in), 5 ΣEVEN (out), 6 ΣODD (out), 7 GND (power), 8 A (in), 9 B (in), 10 C (in), 11 D (in), 12 E (in), 13 F (in), 14 VCC (power)

## SN74LS280NSR
designator U?
9-bit odd/even parity generators / checkers, NS0014A, LARGE T&R; Generic Part Number: SN74LS280; Manufacturer: Texas Instruments; PartNumber: SN74LS280NSR; VCC(Min)(V): 4.75; VCC(Max)(V): 5.25; Output Type: CMOS; Inputs: 9; ICC @ Nom Voltage(Max)(mA): 27; Input Type: TTL; Bits(#): 2; F @ Nom Voltage(Max)(Mhz): 35; Rating: Catalog; Technology Family: LS; Voltage(Nom)(V): 5; Schmitt Trigger: No; Output Drive (IOL/IOH)(Max)(mA): 8/-0.4; tpd @ Nom Voltage(Max)(ns): 50; DatasheetVersion: SDLS152; PackageReference: NS0014A; Supplier 1: Mouser; Supplier Part Number 1: 595-SN74LS280NSR; Supplier 2: Digi-Key; Supplier Part Number 2: 296-28879-2-ND; Supplier 3: Digi-Key; Supplier Part Number 3: 296-28879-1-ND; Supplier 4: Digi-Key; Supplier Part Number 4: 296-28879-6-ND; Function: Parity; Operating Temperature Range(C): 0 to 70; Type: Other; ComponentLink1Description: Manufacturer URL; ComponentLink1URL: http://www.ti.com/; ComponentLink2Description: Datasheet; ComponentLink2URL: http://www.ti.com/lit/ds/symlink/sn74ls280.pdf; ComponentLink3Description: Package Specification; ComponentLink3URL: http://www.ti.com/lit/ml/msop002a/msop002a.pdf
footprint NS0014A_N (SOIC,14-Leads,Body 10.5x5.6mm,Pitch 1.27mm,IPC Medium Density)
footprint NS0014A_M (SOIC,14-Leads,Body 10.5x5.6mm,Pitch 1.27mm,IPC Low Density)
footprint NS0014A_L (SOIC,14-Leads,Body 10.5x5.6mm,Pitch 0.4mm,IPC High Density)
pins: 1 G (in), 2 H (in), 3 NC, 4 I (in), 5 ΣEVEN (out), 6 ΣODD (out), 7 GND (power), 8 A (in), 9 B (in), 10 C (in), 11 D (in), 12 E (in), 13 F (in), 14 VCC (power)

## SN74LS283D
designator U?
4-Bit Binary Full Adders With Fast Carry, D0016A, TUBE; Generic Part Number: SN74LS283; Manufacturer: Texas Instruments; PartNumber: SN74LS283D; VCC(Min)(V): 4.75; VCC(Max)(V): 5.25; Output Type: CMOS; Inputs: 9; Function: Arithmetic; ICC @ Nom Voltage(Max)(mA): 34; Input Type: TTL; Bits(#): 4; F @ Nom Voltage(Max)(Mhz): 35; Rating: Catalog; Technology Family: LS; Voltage(Nom)(V): 5; Schmitt Trigger: No; Output Drive (IOL/IOH)(Max)(mA): 8/-0.4; tpd @ Nom Voltage(Max)(ns): 24; DatasheetVersion: SDLS095A; PackageReference: D0016A; Supplier 1: Mouser; Supplier Part Number 1: 595-SN74LS283D; Supplier 2: Digi-Key; Supplier Part Number 2: 296-33986-5-ND; Operating Temperature Range(C): 0 to 70; Type: Binary; Code_JEDEC: MS-012 variation AC; ComponentLink1Description: Manufacturer URL; ComponentLink1URL: http://www.ti.com/; ComponentLink2Description: Datasheet; ComponentLink2URL: http://www.ti.com/lit/ds/symlink/sn74ls283.pdf; ComponentLink3Description: Package Specification; ComponentLink3URL: http://www.ti.com/lit/ml/mpds178g/mpds178g.pdf
footprint D0016A_N (SOIC, 16-Leads, Body 10x4mm, Pitch 1.27mm, IPC Medium Density)
footprint D0016A_M (SOIC, 16-Leads, Body 10x4mm, Pitch 1.27mm, IPC Low Density)
footprint D0016A_L (SOIC, 16-Leads, Body 10x4mm, Pitch 1.27mm, IPC High Density)
pins: 1 Σ2 (out), 2 B2 (in), 3 A2 (in), 4 Σ1 (out), 5 A1 (in), 6 B1 (in), 7 C0 (in), 8 GND (power), 9 C4 (out), 10 Σ4 (out), 11 B4 (in), 12 A4 (in), 13 Σ3 (out), 14 A3 (in), 15 B3 (in), 16 VCC (power)

## SN74LS283N
designator U?
4-Bit Binary Full Adders With Fast Carry, N0016A, TUBE; Generic Part Number: SN74LS283; Manufacturer: Texas Instruments; PartNumber: SN74LS283N; VCC(Min)(V): 4.75; VCC(Max)(V): 5.25; Output Type: CMOS; Inputs: 9; Function: Arithmetic; ICC @ Nom Voltage(Max)(mA): 34; Input Type: TTL; Bits(#): 4; F @ Nom Voltage(Max)(Mhz): 35; Rating: Catalog; Technology Family: LS; Voltage(Nom)(V): 5; Schmitt Trigger: No; Output Drive (IOL/IOH)(Max)(mA): 8/-0.4; tpd @ Nom Voltage(Max)(ns): 24; DatasheetVersion: SDLS095A; PackageReference: N0016A; Supplier 1: Mouser; Supplier Part Number 1: 595-SN74LS283N; Supplier 2: Digi-Key; Supplier Part Number 2: 296-33987-5-ND; Operating Temperature Range(C): 0 to 70; Type: Binary; Code_JEDEC: MS-001; ComponentLink1Description: Manufacturer URL; ComponentLink1URL: http://www.ti.com/; ComponentLink2Description: Datasheet; ComponentLink2URL: http://www.ti.com/lit/ds/symlink/sn74ls283.pdf; ComponentLink3Description: Package Specification; ComponentLink3URL: http://www.ti.com/lit/ml/mpdi002c/mpdi002c.pdf
footprint N0016A (DIP, 16-Leads, Body 19.7x6.6mm, Pitch 2.54mm)
pins: 1 Σ2 (out), 2 B2 (in), 3 A2 (in), 4 Σ1 (out), 5 A1 (in), 6 B1 (in), 7 C0 (in), 8 GND (power), 9 C4 (out), 10 Σ4 (out), 11 B4 (in), 12 A4 (in), 13 Σ3 (out), 14 A3 (in), 15 B3 (in), 16 VCC (power)

## SN74LS283NSR
designator U?
4-Bit Binary Full Adders With Fast Carry, NS0016A, LARGE T&R; Generic Part Number: SN74LS283; Manufacturer: Texas Instruments; PartNumber: SN74LS283NSR; VCC(Min)(V): 4.75; VCC(Max)(V): 5.25; Output Type: CMOS; Inputs: 9; Function: Arithmetic; ICC @ Nom Voltage(Max)(mA): 34; Input Type: TTL; Bits(#): 4; F @ Nom Voltage(Max)(Mhz): 35; Rating: Catalog; Technology Family: LS; Voltage(Nom)(V): 5; Schmitt Trigger: No; Output Drive (IOL/IOH)(Max)(mA): 8/-0.4; tpd @ Nom Voltage(Max)(ns): 24; DatasheetVersion: SDLS095A; PackageReference: NS0016A; Supplier 1: Mouser; Supplier Part Number 1: 595-SN74LS283NSR; Supplier 2: Digi-Key; Supplier Part Number 2: 296-30001-2-ND; Supplier 3: Digi-Key; Supplier Part Number 3: 296-30001-1-ND; Supplier 4: Digi-Key; Supplier Part Number 4: 296-30001-6-ND; Operating Temperature Range(C): 0 to 70; Type: Binary; ComponentLink1Description: Manufacturer URL; ComponentLink1URL: http://www.ti.com/; ComponentLink2Description: Datasheet; ComponentLink2URL: http://www.ti.com/lit/ds/symlink/sn74ls283.pdf; ComponentLink3Description: Package Specification; ComponentLink3URL: http://www.ti.com/lit/ml/msop002a/msop002a.pdf
footprint NS0016A_N (SOIC,16-Leads,Body 10.5x5.6mm,Pitch 1.27mm,IPC Medium Density)
footprint NS0016A_M (SOIC,16-Leads,Body 10.5x5.6mm,Pitch 1.27mm,IPC Low Density)
footprint NS0016A_L (SOIC,16-Leads,Body 10.5x5.6mm,Pitch 1.27mm,IPC High Density)
pins: 1 Σ2 (out), 2 B2 (in), 3 A2 (in), 4 Σ1 (out), 5 A1 (in), 6 B1 (in), 7 C0 (in), 8 GND (power), 9 C4 (out), 10 Σ4 (out), 11 B4 (in), 12 A4 (in), 13 Σ3 (out), 14 A3 (in), 15 B3 (in), 16 VCC (power)

## SN74LS292N
designator U?
Programmable Frequency Divider / Digital Timer, N0016A, TUBE; Generic Part Number: SN74LS292; Manufacturer: Texas Instruments; PartNumber: SN74LS292N; VCC(Min)(V): 4.75; VCC(Max)(V): 5.25; Output Type: TTL; ICC @ Nom Voltage(Max)(mA): 75; Bits(#): 1; F @ Nom Voltage(Max)(Mhz): 35; Rating: Catalog; Technology Family: LS; Voltage(Nom)(V): 5; Schmitt Trigger: No; Output Drive (IOL/IOH)(Max)(mA): 24/-12; tpd @ Nom Voltage(Max)(ns): 120; DatasheetVersion: SDLS153; PackageReference: N0016A; Supplier 1: Mouser; Supplier Part Number 1: 595-SN74LS292N; Supplier 2: Digi-Key; Supplier Part Number 2: 296-3688-5-ND; Input Type: TTL; Operating Temperature Range(C): 0 to 70; ComponentLink1Description: Manufacturer URL; ComponentLink1URL: http://www.ti.com/; ComponentLink2Description: Datasheet; ComponentLink2URL: http://www.ti.com/lit/ds/symlink/sn74ls292.pdf
footprint N0016A (DIP, 16-Leads, Body 19.7x6.6mm, Pitch 2.54mm)
pins: 1 B (in), 2 E (in), 3 TP1 (out), 4 CLK1 (in), 5 CLK2 (in), 6 TP2 (out), 7 Q (out), 8 GND (power), 9 NC, 10 A (in), 11 ~{CLR} (in), 12 NC, 13 TP3 (out), 14 D (in), 15 C (in), 16 VCC (power)

## SN74LS293D
designator U?
4-Bit Binary Counters, D0014A, TUBE; Generic Part Number: SN74LS293; Manufacturer: Texas Instruments; PartNumber: SN74LS293D; VCC(Min)(V): 4.75; VCC(Max)(V): 5.25; Output Type: CMOS; Inputs: 1; ICC @ Nom Voltage(Max)(mA): 39; Input Type: TTL; Bits(#): 4; F @ Nom Voltage(Max)(Mhz): 35; Rating: Catalog; Technology Family: LS; Voltage(Nom)(V): 5; Schmitt Trigger: No; Output Drive (IOL/IOH)(Max)(mA): 16/-0.8; tpd @ Nom Voltage(Max)(ns): 70; DatasheetVersion: SDLS097; PackageReference: D0014A; Supplier 1: Mouser; Supplier Part Number 1: 595-SN74LS293D; Supplier 2: Digi-Key; Supplier Part Number 2: 296-33988-5-ND; Function: Counter; Operating Temperature Range(C): 0 to 70; Type: Binary; Code_JEDEC: MS-012; ComponentLink1Description: Manufacturer URL; ComponentLink1URL: http://www.ti.com/; ComponentLink2Description: Datasheet; ComponentLink2URL: http://www.ti.com/lit/ds/symlink/sn74ls293.pdf; ComponentLink3Description: Package Specification; ComponentLink3URL: http://www.ti.com/lit/ml/mpds177g/mpds177g.pdf
footprint D0014A_N (SOIC, 14-Leads, Body 8.75x4mm, Pitch 1.27mm, IPC Medium Density)
footprint D0014A_M (SOIC, 14-Leads, Body 8.75x4mm, Pitch 1.27mm, IPC Low Density)
footprint D0014A_L (SOIC, 14-Leads, Body 8.75x4mm, Pitch 1.27mm, IPC High Density)
part A pins: 4 QC (out), 5 QB (out), 7 GND (power), 8 QD (out), 9 QA (out), 10 CKA (in), 11 CKB (in), 12 R0(1) (in), 13 R0(2) (in), 14 VCC (power)
part B pins: 1 NC, 2 NC, 3 NC, 6 NC

## SN74LS293N
designator U?
4-Bit Binary Counters, N0014A, TUBE; Generic Part Number: SN74LS293; Manufacturer: Texas Instruments; PartNumber: SN74LS293N; VCC(Min)(V): 4.75; VCC(Max)(V): 5.25; Output Type: CMOS; Inputs: 1; ICC @ Nom Voltage(Max)(mA): 39; Input Type: TTL; Bits(#): 4; F @ Nom Voltage(Max)(Mhz): 35; Rating: Catalog; Technology Family: LS; Voltage(Nom)(V): 5; Schmitt Trigger: No; Output Drive (IOL/IOH)(Max)(mA): 16/-0.8; tpd @ Nom Voltage(Max)(ns): 70; DatasheetVersion: SDLS097; PackageReference: N0014A; Supplier 1: Mouser; Supplier Part Number 1: 595-SN74LS293N; Supplier 2: Digi-Key; Supplier Part Number 2: 296-33989-5-ND; Function: Counter; Operating Temperature Range(C): 0 to 70; Type: Binary; Code_JEDEC: MS-001; ComponentLink1Description: Manufacturer URL; ComponentLink1URL: http://www.ti.com/; ComponentLink2Description: Datasheet; ComponentLink2URL: http://www.ti.com/lit/ds/symlink/sn74ls293.pdf; ComponentLink3Description: Package Specification; ComponentLink3URL: http://www.ti.com/lit/ml/mpdi002c/mpdi002c.pdf
footprint N0014A (DIP, 14-Leads, Body 19.7x6.6mm, Pitch 2.54mm)
part A pins: 4 QC (out), 5 QB (out), 7 GND (power), 8 QD (out), 9 QA (out), 10 CKA (in), 11 CKB (in), 12 R0(1) (in), 13 R0(2) (in), 14 VCC (power)
part B pins: 1 NC, 2 NC, 3 NC, 6 NC

## SN74LS294N
designator U?
Programmable Frequency Divider / Digital Timer, N0016A, TUBE; Generic Part Number: SN74LS294; Manufacturer: Texas Instruments; PartNumber: SN74LS294N; VCC(Min)(V): 4.75; VCC(Max)(V): 5.25; Output Type: TTL; ICC @ Nom Voltage(Max)(mA): 50; Bits(#): 1; F @ Nom Voltage(Max)(Mhz): 35; Rating: Catalog; Technology Family: LS; Voltage(Nom)(V): 5; Schmitt Trigger: No; Output Drive (IOL/IOH)(Max)(mA): 24/-12; tpd @ Nom Voltage(Max)(ns): 12; DatasheetVersion: SDLS153; PackageReference: N0016A; Supplier 1: Mouser; Supplier Part Number 1: 595-SN74LS294N; Supplier 2: Digi-Key; Supplier Part Number 2: 296-3689-5-ND; Input Type: TTL; Operating Temperature Range(C): 0 to 70; ComponentLink1Description: Manufacturer URL; ComponentLink1URL: http://www.ti.com/; ComponentLink2Description: Datasheet; ComponentLink2URL: http://www.ti.com/lit/ds/symlink/sn74ls294.pdf
footprint N0016A (DIP, 16-Leads, Body 19.7x6.6mm, Pitch 2.54mm)
part A pins: 1 B (in), 2 A (in), 3 TP (oc), 4 CLK1 (in), 5 CLK2 (in), 7 Q (out), 8 GND (power), 11 ~{CLR} (in), 14 D (in), 15 C (in), 16 VCC (power)
part B pins: 6 NC, 9 NC, 10 NC, 12 NC, 13 NC

## SN74LS297N
designator U?
Digital Phase-Locked-Loop Filters, N0016A, TUBE; Generic Part Number: SN74LS297; Manufacturer: Texas Instruments; PartNumber: SN74LS297N; VCC(Min)(V): 4.75; VCC(Max)(V): 5.25; Output Type: TTL; ICC @ Nom Voltage(Max)(mA): 120; Bits(#): 1; F @ Nom Voltage(Max)(Mhz): 35; Rating: Catalog; Technology Family: LS; Voltage(Nom)(V): 5; Schmitt Trigger: No; Output Drive (IOL/IOH)(Max)(mA): 24/-0.4; DatasheetVersion: SDLS155; PackageReference: N0016A; Supplier 1: Mouser; Supplier Part Number 1: 595-SN74LS297N; Supplier 2: Digi-Key; Supplier Part Number 2: 296-3690-5-ND; Input Type: TTL; Operating Temperature Range(C): 0 to 70; tpd @ Nom Voltage(Max)(ns): 35; ComponentLink1Description: Manufacturer URL; ComponentLink1URL: http://www.ti.com/; ComponentLink2Description: Datasheet; ComponentLink2URL: http://www.ti.com/lit/ds/symlink/sn74ls297.pdf
footprint N0016A (DIP, 16-Leads, Body 19.7x6.6mm, Pitch 2.54mm)
part A pins: 1 B (in), 2 A (in), 3 ENCTR (in), 4 K CLK (in), 5 I/D CLK (in), 6 D/~{U} (in), 7 I/DOUT (out), 14 D (in), 15 C (in)
part B pins: 9 φA1 (in), 10 φB (in), 11 XORPDOUT (out), 12 ECPDOUT (out), 13 φA2 (in)
part C pins: 8 GND (power), 16 VCC (power)

## SN74LS298N
designator U?
Quadruple 2-Input Multiplexers With Storage, N0016A, TUBE; Generic Part Number: SN74LS298; Manufacturer: Texas Instruments; PartNumber: SN74LS298N; VCC(Min)(V): 4.75; VCC(Max)(V): 5.25; Output Type: TTL; Function: Encoder/Multiplexer; ICC @ Nom Voltage(Max)(mA): 21; Bits(#): 2; F @ Nom Voltage(Max)(Mhz): 35; Configuration: 2：1; Channels(#): 4; Rating: Catalog; Technology Family: LS; Voltage(Nom)(V): 5; Schmitt Trigger: No; Output Drive (IOL/IOH)(Max)(mA): 8/-0.4; tpd @ Nom Voltage(Max)(ns): 32; DatasheetVersion: SDLS098; PackageReference: N0016A; Supplier 1: Mouser; Supplier Part Number 1: 595-SN74LS298N; Supplier 2: Digi-Key; Supplier Part Number 2: 296-33990-5-ND; Input Type: TTL; Operating Temperature Range(C): 0 to 70; Type: Standard; Code_JEDEC: MS-001; ComponentLink1Description: Manufacturer URL; ComponentLink1URL: http://www.ti.com/; ComponentLink2Description: Datasheet; ComponentLink2URL: http://www.ti.com/lit/ds/symlink/sn74ls298.pdf; ComponentLink3Description: Package Specification; ComponentLink3URL: http://www.ti.com/lit/ml/mpdi002c/mpdi002c.pdf
footprint N0016A (DIP, 16-Leads, Body 19.7x6.6mm, Pitch 2.54mm)
pins: 1 B2 (in), 2 A2 (in), 3 A1 (in), 4 B1 (in), 5 C2 (in), 6 D2 (in), 7 D1 (in), 8 GND (power), 9 C1 (in), 10 WS (in), 11 CLK (in), 12 QD (out), 13 QC (out), 14 QB (out), 15 QA (out), 16 VCC (power)

## SN74LS348D
designator U?
8-Line To 3-Line Priority Encoder, D0016A, TUBE; Generic Part Number: SN74LS348; Manufacturer: Texas Instruments; PartNumber: SN74LS348D; VCC(Min)(V): 4.75; VCC(Max)(V): 5.25; Output Type: TTL; Function: Encoder/Multiplexer; ICC @ Nom Voltage(Max)(mA): 25; Bits(#): 8; F @ Nom Voltage(Max)(Mhz): 35; Configuration: 8：3; Channels(#): 1; Rating: Catalog; Technology Family: LS; Voltage(Nom)(V): 5; Schmitt Trigger: No; Output Drive (IOL/IOH)(Max)(mA): 24/-2.6; DatasheetVersion: SDLS161; PackageReference: D0016A; Supplier 1: Mouser; Supplier Part Number 1: 595-SN74LS348D; Supplier 2: Digi-Key; Supplier Part Number 2: 296-33993-5-ND; Input Type: TTL; Operating Temperature Range(C): 0 to 70; Type: 3-State Output; tpd @ Nom Voltage(Max)(ns): 35; Code_JEDEC: MS-012 variation AC; ComponentLink1Description: Manufacturer URL; ComponentLink1URL: http://www.ti.com/; ComponentLink2Description: Datasheet; ComponentLink2URL: http://www.ti.com/lit/ds/symlink/sn74ls348.pdf; ComponentLink3Description: Package Specification; ComponentLink3URL: http://www.ti.com/lit/ml/mpds178g/mpds178g.pdf
footprint D0016A_N (SOIC, 16-Leads, Body 10x4mm, Pitch 1.27mm, IPC Medium Density)
footprint D0016A_M (SOIC, 16-Leads, Body 10x4mm, Pitch 1.27mm, IPC Low Density)
footprint D0016A_L (SOIC, 16-Leads, Body 10x4mm, Pitch 1.27mm, IPC High Density)
pins: 1 ~{4} (in), 2 ~{5} (in), 3 ~{6} (in), 4 ~{7} (in), 5 ~{EI} (in), 6 ~{A2} (hiz), 7 ~{A1} (hiz), 8 GND (power), 9 ~{A0} (hiz), 10 ~{0} (in), 11 ~{1} (in), 12 ~{2} (in), 13 ~{3} (in), 14 ~{GS} (out), 15 EO (out), 16 VCC (power)